# Altium footprint library Connectors.PcbLib: 3 footprints
Each footprint in its own frame and in the unit in brackets; x right, y up, seen from the top. Pads: shape width x height; smd on the part's side, far side on the other; paste and mask are expansions set on the pad; w line width, h text height; cw(c..) or ccw(c..) is an arc to the next point about the centre after c.
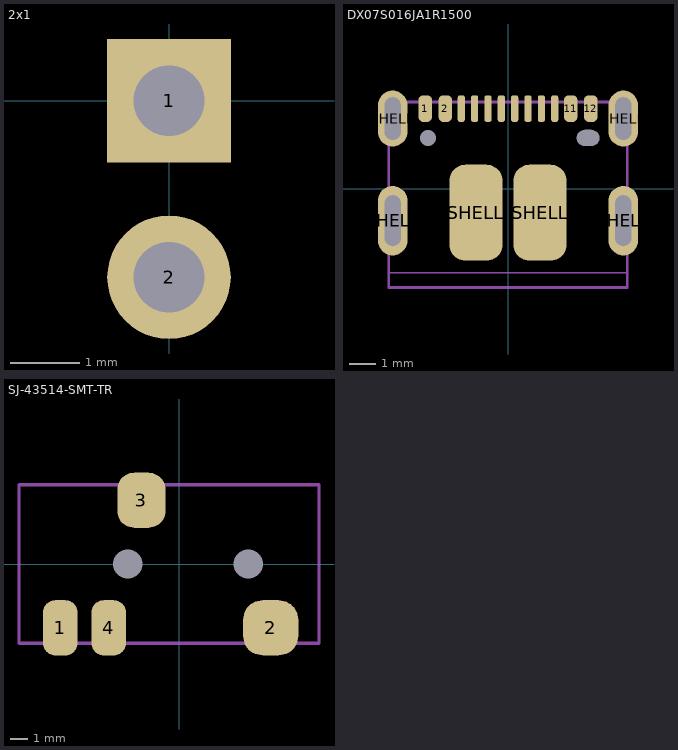
[diagram p0: the footprints below, top view; thin cyan lines are the x and y axes]

## 2x1 [mil]
pads (2):
  rect 70x70 hole 40 paste-3897.64: 1(0,0)
  round 70 hole 40 paste-3897.64: 2(0,-100)
3D body "m20-9990245_asm.stp": height 338.58, standoff -121.26, extent -50,-150 50,50

## DX07S016JA1R1500 [mm] "USB-C (USB TYPE-C) USB 2.0 Receptacle Connector 24 (16+8 Dummy) Position Surface Mount, Right Angle; Through Hole"
pads (20):
  rrect70% 0.5x1 smd paste-0.05 mask+0.05: 1(-3.1,3) 2(-2.35,3) 11(2.35,3) 12(3.1,3)
  rrect70% 0.27x1 smd paste-0.04 mask+0.05: 3(-1.75,3) 4(-1.25,3) 5(-0.75,3) 6(-0.25,3) 7(0.25,3) 8(0.75,3) 9(1.25,3) 10(1.75,3)
  rrect100% 1.1x2.6 hole 0.6 slot 1.9 at 90 deg paste-99 mask+0.1: SHELL(-4.32,-1.2) SHELL(4.32,-1.2)
  rrect100% 1.1x2.1 hole 0.6 slot 1.6 at 90 deg paste-99 mask+0.1: SHELL(-4.32,2.625) SHELL(4.32,2.625)
  rrect60% 2x3.6 smd paste-0.12 mask+0.05: SHELL(-1.2,-0.9) SHELL(1.2,-0.9)
  round 0 hole 0.6: ""(-3,1.9)
  round 0 hole 0.6 slot 0.85 at 0 deg: ""(3,1.9)
Top Paste:
  lines w0.6: -4.9,-1.925 -4.9,-0.525 ; -3.74,-1.875 -3.74,-0.475 ; 3.74,-1.925 3.74,-0.525 ; 4.9,-1.875 4.9,-0.475
  lines w0.7: -4.9,1.9 -4.9,3.3 ; 4.9,1.95 4.9,3.35
Assembly:
  lines w0.05: -4.47,-3.15 4.47,-3.15
  lines w0.1: -4.47,-3.7 -4.47,3.25 4.47,3.25 4.47,-3.7 -4.47,-3.7
  text ".Designator" at -3.5,-0.7 h1.1
3D body "K3D-DX07S016JA1-V1_JAE_Proprietary.STEP": height 3.18, standoff -0.88, extent -4.47,-3.65 4.47,3.25

## SJ-43514-SMT-TR [mm] "3.50mm (0.141\", 1/8\", Mini Plug) - Headphone Phone Jack Stereo (4 Conductor, TRRS) Connector Solder"
pads (6):
  rrect70% 2x3.2 smd paste-0.05: 1(-6.9,-3.7) 4(-4.1,-3.7)
  rrect70% 3.2x3.2 smd paste-0.05: 2(5.3,-3.7)
  rrect70% 2.8x3.2 smd paste-0.05: 3(-2.2,3.7)
  round 0 hole 1.7: 22(-3,0) 22(4,0)
Assembly:
  lines w0.2: -9.3,-4.6 -9.3,4.6 8.1,4.6 8.1,-4.6 -9.3,-4.6
  text ".Designator" at -1.9,-0.2 h1.1
3D body "CUI_DEVICES_SJ-43514-SMT-TR.step": height 5.1, standoff -0.7, extent -9.2,-4.5 8,4.5